# Altium footprint library ARC_FULL_CIRCLES.PcbLib: 1 footprints
Each footprint in its own frame and in the unit in brackets; x right, y up, seen from the top. Pads: shape width x height; smd on the part's side, far side on the other; paste and mask are expansions set on the pad; w line width, h text height; cw(c..) or ccw(c..) is an arc to the next point about the centre after c.
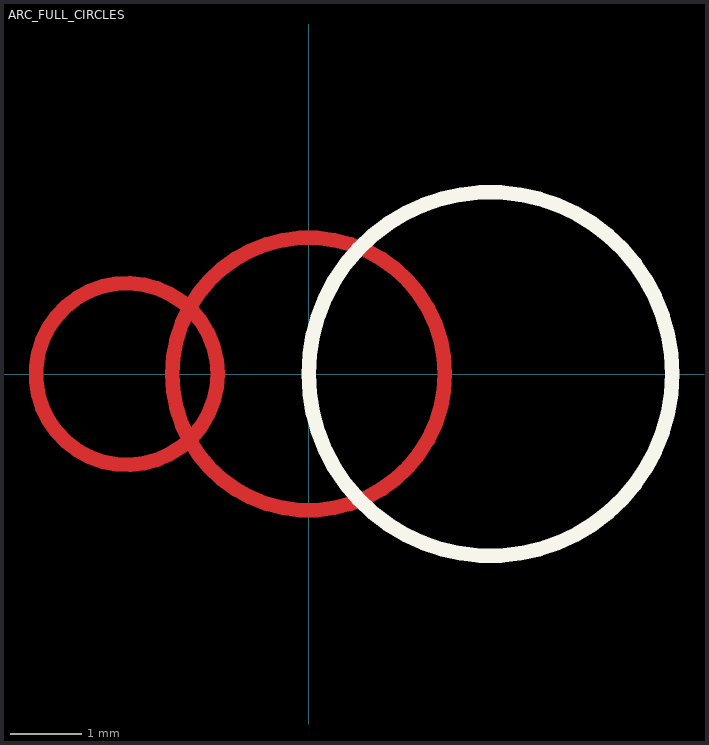
[diagram p0: the footprint, top view; thin cyan lines are the x and y axes]

## ARC_FULL_CIRCLES [mm] "Full 360-degree circles"
Top Layer:
  circle w0.203: c0,0 r1.905
  circle w0.203: c-2.54,0 r1.27
Top Overlay:
  circle w0.203: c2.54,0 r2.54